# Altium schematic symbol library EsoCore.SCHLIB: 52 symbols
Pins are listed as number, name and electrical type; pins without a type are passive.

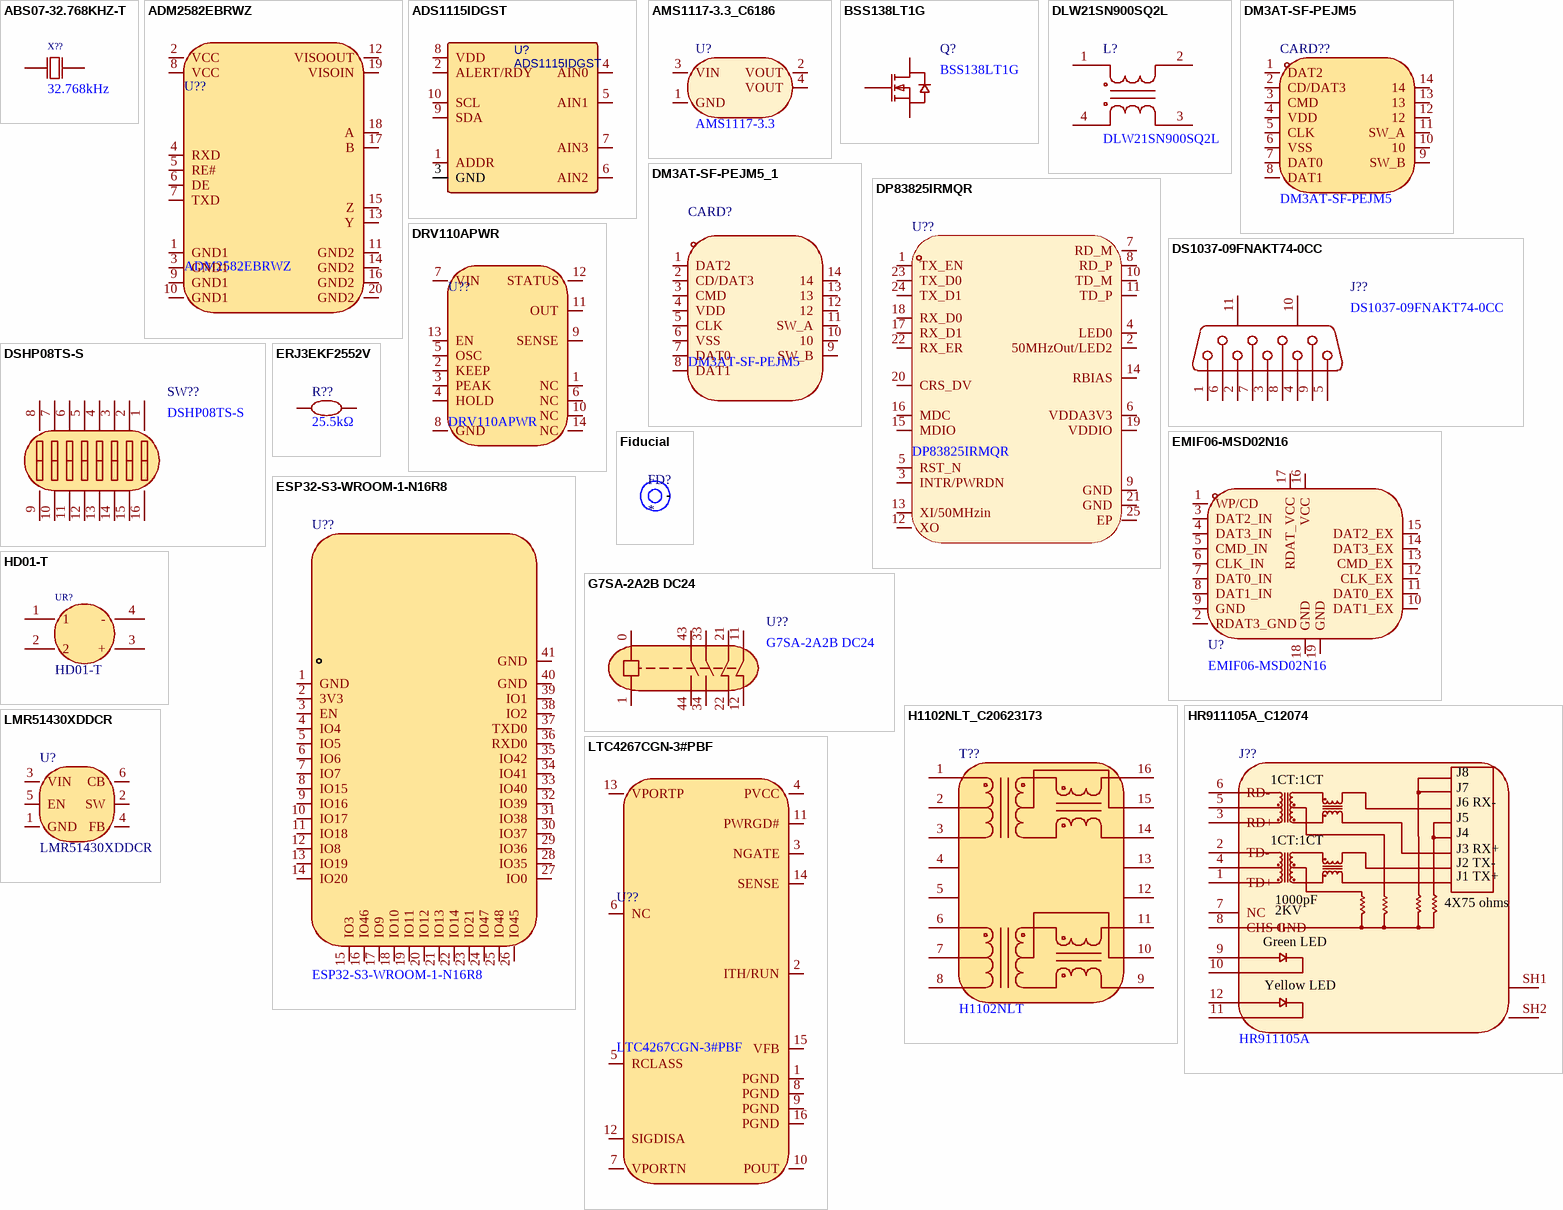
[diagram p0: symbols ABS07-32.768KHZ-T to LTC4267CGN-3#PBF]

## ABS07-32.768KHZ-T
designator X??, comment 32.768kHz
Manufacturer: ABRACON; Symbol: ABS07-32.768KHZ-T; Add into BOM: yes; Normal temperature Frequency Tolerance: ±20ppm; Load Capacitance: 12.5pF; Equivalent Series Resistance(ESR): 70kΩ; Device: ABS07-32.768KHZ-T; Supplier: LCSC; Supplier Part: C130253; Manufacturer Part: ABS07-32.768KHZ-T; Value: 32.768kHz; JLCPCB Part Class: Extended Part; LCSC Part Name: 32.768kHz ±20ppm 12.5pF; Supplier Footprint: SMD3215-2P; Datasheet: https://item.szlcsc.com/datasheet/ABS07-32.768KHZ-T/141540.html; Convert to PCB: yes; Type: Crystal Oscillator; Frequency Stability: -; Operating Temperature: -40℃~+85℃
footprint OSC-SMD_2P-L3.2-W1.5
3D model OSC-SMD_2P-L3.2-W1.5-H0.9
pins: 1 OSC1, 2 OSC2

## ADM2582EBRWZ
designator U??
Manufacturer: ADI(亚德诺); Add into BOM: yes; Communication Mode: Full-Duplex；Half-Duplex; Voltage - Supply: 3.3V；5V; Output Voltage: 3.3V; Isolation Voltage(Vrms): 2500; CMTI(kV/us): 25kV/us; Symbol: ADM2582EBRWZ; Device: ADM2582EBRWZ; LCSC Part Name: 信号和电源隔离的RS-485收发器，具有±15 kV静电放电保护; Supplier Part: C18532; Manufacturer Part: ADM2582EBRWZ; Supplier Footprint: SOIC-20-300mil; JLCPCB Part Class: Extended Part; Datasheet: https://item.szlcsc.com/datasheet/ADM2582EBRWZ/19232.html; Supplier: LCSC; Convert to PCB: yes; Operating Temperature: -40℃~+85℃
footprint SOIC-20_L13.0-W7.6-P1.27-LS10.3-BL
3D model SOIC-20_L12.8-W7.5-H2.7-LS10.3-P1.27
pins: 1 GND1, 2 VCC, 3 GND1, 4 RXD, 5 RE#, 6 DE, 7 TXD, 8 VCC, 9 GND1, 10 GND1, 11 GND2, 12 VISOOUT, 13 Y, 14 GND2, 15 Z, 16 GND2, 17 B, 18 A, 19 VISOIN, 20 GND2

## ADS1115IDGST
designator U?
Manufacturer: TI(德州仪器); Contributor: LCSC; Supplier: LCSC; Supplier Part: C468683; Manufacturer Part: ADS1115IDGST; JLCPCB Part Class: Extended Part; spicePre: U; spiceSymbolName: ADS1115IDGST
footprint VSSOP-10_L3.0-W3.0-P0.50-LS4.9-BL
pins: 1 ADDR, 2 ALERT/RDY, 3 GND, 4 AIN0, 5 AIN1, 6 AIN2, 7 AIN3, 8 VDD, 9 SDA, 10 SCL

## AMS1117-3.3_C6186
designator U?, comment AMS1117-3.3
Manufacturer: AMS; Device: AMS1117-3.3_C6186; Add into BOM: yes; Output Type: Fixed; Voltage - Supply: 16V; Output Voltage: 3.3V; Output Current: 1A; Power Supply Rejection Ratio (PSRR): 72dB@(120Hz); Voltage Dropout: 1.1V@(800mA); standby current: 5mA; Output Configuration: Positive; Number of Outputs: 1; Symbol: AMS1117-3.3; LCSC Part Name: 输出3.3V 1A; Supplier Part: C6186; Manufacturer Part: AMS1117-3.3; Supplier Footprint: SOT-223; JLCPCB Part Class: Basic Part; Datasheet: https://item.szlcsc.com/datasheet/AMS1117-3.3/6652.html; Supplier: LCSC; Convert to PCB: yes; Noise: -; Features: Over Current Protection；Over Temperature Protection; Operating Temperature: -40℃~+125℃
footprint SOT-223-3_L6.5-W3.4-P2.30-LS7.0-BR
3D model SOT-223-4P_L6.5-W3.5-H1.6-LS7.0-P2.30
pins: 1 GND, 2 VOUT, 3 VIN, 4 VOUT

## BSS138LT1G
designator Q?
Manufacturer: onsemi(安森美); Add into BOM: yes; Number: 1 N-Channel; Drain to Source Voltage: 50V; Current - Continuous Drain(Id): 200mA; RDS(on): 5.6Ω@2.75V; Pd - Power Dissipation: 225mW; Gate Threshold Voltage (Vgs(th)): 500mV; Input Capacitance(Ciss): 50pF@25V; Reverse Transfer Capacitance (Crss@Vds): 5pF@25V; Symbol: BSS138LT1G; Device: BSS138LT1G; LCSC Part Name: 1个N沟道 耐压:50V 电流:200mA; Supplier Part: C82045; Manufacturer Part: BSS138LT1G; Supplier Footprint: SOT-23; JLCPCB Part Class: Extended Part; Datasheet: https://item.szlcsc.com/datasheet/BSS138LT1G/83200.html; Supplier: LCSC; Convert to PCB: yes; Operating Temperature: -55℃~+150℃
footprint SOT-23-3_L2.9-W1.6-P1.90-LS2.8-BR
3D model SOT-23-3L_L2.9-W1.6-H1.1-LS2.8-P0.95
pins: 1 G, 2 S, 3 D

## DLW21SN900SQ2L
designator L?
Manufacturer: muRata(村田); Add into BOM: yes; Number of Lines: 2; Current Rating: 330mA; Impedance @ Frequency: 90Ω@100MHz; Symbol: DLW21SN900SQ2L; Device: DLW21SN900SQ2L; LCSC Part Name: 两路 贴片共模滤波器 阻抗90Ω@100MHz; Supplier Part: C97856; Manufacturer Part: DLW21SN900SQ2L; Supplier Footprint: SMD-4P,2x1.2mm; JLCPCB Part Class: Extended Part; Datasheet: https://item.szlcsc.com/datasheet/DLW21SN900SQ2L/99065.html; Supplier: LCSC; Convert to PCB: yes; Voltage Rating - DC: -; DC Resistance(DCR): -; Operating Temperature: -40℃~+85℃
footprint FILTER-SMD_4P-L2.0-W1.2-BL_DLW21H
3D model SMD-4_L2.0-W1.2-H1.3
pins: 1, 2, 3, 4

## DM3AT-SF-PEJM5
designator CARD??
Manufacturer: HRS(广濑); Add into BOM: yes; Card Connection Mode: Self-bouncing; Card Type: MicroSD card (TF card); Connector Type: Card Slot; Additional Card Detection Pins: None; Maximum Body Height: 1.68mm; Symbol: DM3AT-SF-PEJM5; Device: DM3AT-SF-PEJM5; LCSC Part Name: 自弹式 MicroSD卡(TF卡) 卡座; Supplier Part: C114218; Manufacturer Part: DM3AT-SF-PEJM5; Supplier Footprint: SMD; JLCPCB Part Class: Extended Part; Datasheet: https://atta.szlcsc.com/upload/public/pdf/source/20170707/1499425911622.pdf; Supplier: LCSC; Convert to PCB: yes; Supplementary Features: -; Operating Temperature Range: -25℃~+85℃
footprint SD-SMD_DM3AT-SF-PEJM5
3D model SD-SMD_DM3AT-SF-PEJM5
pins: 1 DAT2, 2 CD/DAT3, 3 CMD, 4 VDD, 5 CLK, 6 VSS, 7 DAT0, 8 DAT1, 9 SW_B, 10, 11 SW_A, 12, 13, 14

## DM3AT-SF-PEJM5_1
designator CARD?, comment DM3AT-SF-PEJM5
Manufacturer: HRS(广濑); Add into BOM: yes; Card Connection Mode: Self-bouncing; Card Type: MicroSD card (TF card); Connector Type: Card Slot; Additional Card Detection Pins: None; Maximum Body Height: 1.68mm; Symbol: DM3AT-SF-PEJM5; Device: DM3AT-SF-PEJM5; LCSC Part Name: 自弹式 MicroSD卡(TF卡) 卡座; Supplier Part: C114218; Manufacturer Part: DM3AT-SF-PEJM5; Supplier Footprint: SMD; JLCPCB Part Class: Extended Part; Datasheet: https://atta.szlcsc.com/upload/public/pdf/source/20170707/1499425911622.pdf; Supplier: LCSC; Convert to PCB: yes; Supplementary Features: -; Operating Temperature Range: -25℃~+85℃
footprint SD-SMD_DM3AT-SF-PEJM5
3D model SD-SMD_DM3AT-SF-PEJM5
pins: 1 DAT2, 2 CD/DAT3, 3 CMD, 4 VDD, 5 CLK, 6 VSS, 7 DAT0, 8 DAT1, 9 SW_B, 10, 11 SW_A, 12, 13, 14

## DP83825IRMQR
designator U??
Manufacturer: TI(德州仪器); Add into BOM: yes; MAC Interface: RMII; Voltage - Supply: 1.8V；3.3V; Symbol: DP83825IRMQR; Device: DP83825IRMQR; LCSC Part Name: DP83825I低功耗10/100Mbps以太网物理层收发器; Supplier Part: C783599; Manufacturer Part: DP83825IRMQR; Supplier Footprint: HVQFN-24-EP(3x3); JLCPCB Part Class: Extended Part; Datasheet: https://www.ti.com/cn/lit/gpn/dp83825i; Supplier: LCSC; Convert to PCB: yes; Applications Function: -; Number of Channels: -; Operating Temperature: -40℃~+85℃
footprint HVQFN-24_L3.0-W3.0-P0.40-TL-EP1.9
3D model HVQFN-24_L3.0-W3.0-P0.40-TL-EP1.9
pins: 1 TX_EN, 2 50MHzOut/LED2, 3 INTR/PWRDN, 4 LED0, 5 RST_N, 6 VDDA3V3, 7 RD_M, 8 RD_P, 9 GND, 10 TD_M, 11 TD_P, 12 XO, 13 XI/50MHzin, 14 RBIAS, 15 MDIO, 16 MDC, 17 RX_D1, 18 RX_D0, 19 VDDIO, 20 CRS_DV, 21 GND, 22 RX_ER, 23 TX_D0, 24 TX_D1, 25 EP

## DRV110APWR
designator U??
Manufacturer: TI(德州仪器); Add into BOM: yes; Symbol: DRV110APWR; Device: DRV110APWR; LCSC Part Name: 330mA 15V电机驱动芯片; Supplier Part: C2653796; Manufacturer Part: DRV110APWR; Supplier Footprint: TSSOP-14; JLCPCB Part Class: Extended Part; Datasheet: https://www.ti.com/cn/lit/gpn/drv110; Supplier: LCSC; Convert to PCB: yes
footprint TSSOP-14_L5.0-W4.4-P0.65-LS6.4-BL
3D model TSSOP-14_L5.0-W4.4-H1.0-LS6.4-P0.65
pins: 1 NC, 2 KEEP, 3 PEAK, 4 HOLD, 5 OSC, 6 NC, 7 VIN, 8 GND, 9 SENSE, 10 NC, 11 OUT, 12 STATUS, 13 EN, 14 NC

## DS1037-09FNAKT74-0CC
designator J??
Manufacturer: CONNFLY; Add into BOM: yes; Connector Type: Standard D-Sub; Gender: Mother; Current Rating-Signal (Max): 3A; Symbol: DS1037-09FNAKT74-0CC; Device: DS1037-09FNAKT74-0CC; LCSC Part Name: D-Sub 母 P数:9P 1200/盒 带六角螺丝; Supplier Part: C75749; Manufacturer Part: DS1037-09FNAKT74-0CC; Supplier Footprint: 弯插; JLCPCB Part Class: Extended Part; Datasheet: https://atta.szlcsc.com/upload/public/pdf/source/20241014/2E52C80238FADC5DB5725AE5600FD7FE.pdf; Supplier: LCSC; Convert to PCB: yes; Number of Pins: 9P; Mounting Style: Bend-in; Number of Rows: 2; Current Rating-Power (Max): -; Rated Voltage (Max): -; Colour: Black; Operating Temperature Range: -40℃~+105℃
footprint DSUB-TH_DS1037-09FNAKT74-0CC
3D model DSUB-TH_DMR-9S
pins: 1, 2, 3, 4, 5, 6, 7, 8, 9, 10 MH1, 11 MH2

## DSHP08TS-S
designator SW??
Manufacturer: XKB Connectivity(中国星坤); Add into BOM: yes; Circuit: SPST; Number of Positions: 8Bit; Pin Style: Gull Wing; Current Rating: 25mA; Voltage Rating: 24V; Operating Life: 3千次; Symbol: DSHP08TS-S; Device: DSHP08TS-S; Supplier: LCSC; Supplier Part: C319047; Manufacturer Part: DSHP08TS-S; JLCPCB Part Class: Extended Part; LCSC Part Name: 间距1.27mm 平拨,凹槽式 8位拨码开关; Supplier Footprint: SMD-16P,5.4x11.8mm; Datasheet: https://atta.szlcsc.com/upload/public/pdf/source/20211009/11BE85C99D2C85B0991AF4F9D6EB8BDE.pdf; Convert to PCB: yes; Type: 平拨,凹槽式; Lead Pitch: 1.27mm; Operating Temperature: -20℃~+70℃; Color: Black
footprint SW-SMD_DSHP08TS-S
3D model SW-SMD_DSHP08TS-S-L11.8-W5.4-H2.4-P1.27-LS8.5
pins: 1 A1, 2 A2, 3 A3, 4 A4, 5 A5, 6 A6, 7 A7, 8 A8, 9 B8, 10 B7, 11 B6, 12 B5, 13 B4, 14 B3, 15 B2, 16 B1

## EMIF06-MSD02N16
designator U?
Manufacturer: ST(意法半导体); Add into BOM: yes; Symbol: EMIF06-MSD02N 16; Device: EMIF06-MSD02N16; LCSC Part Name: EMIF06-MSD02N16; Supplier Part: C5267594; Manufacturer Part: EMIF06-MSD02N16; Supplier Footprint: QFN-16L; JLCPCB Part Class: Extended Part; Datasheet: https://atta.szlcsc.com/upload/public/pdf/source/20230906/AB780163D3E87C06B3836FCBE42EA0F7.pdf; Supplier: LCSC; Convert to PCB: yes
footprint QFN-16L_L3.5-W1.2-P0.40_EMIF06-MSD02N16
3D model QFN-16L_L3.5-W1.2-P0.40_EMIF06-MSD02N16
pins: 1 WP/CD, 2 RDAT3_GND, 3 DAT2_IN, 4 DAT3_IN, 5 CMD_IN, 6 CLK_IN, 7 DAT0_IN, 8 DAT1_IN, 9 GND, 10 DAT1_EX, 11 DAT0_EX, 12 CLK_EX, 13 CMD_EX, 14 DAT3_EX, 15 DAT2_EX, 16 VCC, 17 RDAT_VCC, 18 GND, 19 GND

## ERJ3EKF2552V
designator R??, comment 25.5kΩ
Manufacturer: PANASONIC(松下); Symbol: ERJ3EKF2552V; Add into BOM: yes; Tolerance: ±1%; Temperature Coefficient: ±100ppm/℃; Device: ERJ3EKF2552V; Supplier: LCSC; Supplier Part: C403107; Manufacturer Part: ERJ3EKF2552V; Value: 25.5kΩ; JLCPCB Part Class: Extended Part; LCSC Part Name: 25.5kΩ ±1% 100mW 厚膜电阻; Supplier Footprint: 0603; Datasheet: https://atta.szlcsc.com/upload/public/pdf/source/20190709/C403410_4AA7B6683950D876CE9308C181828FCD.pdf; Convert to PCB: yes; Type: Thick Film Resistors; Overload Voltage (Max): -; Operating Temperature Range: -55℃~+155℃
footprint R0603
3D model R0603
pins: 1, 2

## ESP32-S3-WROOM-1-N16R8
designator U??
Manufacturer: ESPRESSIF(乐鑫); Symbol: ESP32-S3-WROOM-1(N16R8); Add into BOM: yes; Device: ESP32-S3-WROOM-1-N16R8; LCSC Part Name: 通用型Wi-Fi+低功耗蓝牙MCU模组; Supplier Part: C2913202; Manufacturer Part: ESP32-S3-WROOM-1-N16R8; Supplier Footprint: SMD,18x25.5mm; JLCPCB Part Class: Extended Part; Datasheet: https://item.szlcsc.com/datasheet/ESP32-S3-WROOM-1-N16R8/3198300.html; Supplier: LCSC; Convert to PCB: yes
footprint WIRELM-SMD_ESP32-S3-WROOM-1
3D model WIRELM-SMD_ESP32-S3-WROOM-1
pins: 1 GND, 2 3V3, 3 EN, 4 IO4, 5 IO5, 6 IO6, 7 IO7, 8 IO15, 9 IO16, 10 IO17, 11 IO18, 12 IO8, 13 IO19, 14 IO20, 15 IO3, 16 IO46, 17 IO9, 18 IO10, 19 IO11, 20 IO12, 21 IO13, 22 IO14, 23 IO21, 24 IO47, 25 IO48, 26 IO45, 27 IO0, 28 IO35, 29 IO36, 30 IO37, 31 IO38, 32 IO39, 33 IO40, 34 IO41, 35 IO42, 36 RXD0, 37 TXD0, 38 IO2, 39 IO1, 40 GND, 41 GND

## Fiducial
designator FD?  (no BOM)
1mm pad with 2mm solder mask
footprint fidutial
pins: 0

## G7SA-2A2B DC24
designator U??
Manufacturer: OMRON(欧姆龙); Add into BOM: yes; Symbol: G7SA-2A2B DC24; Device: G7SA-2A2B DC24; LCSC Part Name: G7SA-2A2B DC24; Supplier Part: C397126; Manufacturer Part: G7SA-2A2B DC24; Supplier Footprint: DIP,13x40mm; JLCPCB Part Class: Extended Part; Datasheet: https://item.szlcsc.com/datasheet/G7SA-2A2B%2520DC24/378713.html; Supplier: LCSC; Convert to PCB: yes; Coil Voltage: -; Contact Form: -; Number of Pins: -; Contact Rating: -; Switching Voltage(Max): -; Contact Material: -; Coil Resistance: -; Switching Current(Max): -; Operate Time: -; Release Time: -; Coil Type: -; Contact Resistance: -; Operating Temperature: -
footprint RELAY-TH_G7SA-2A2B
pins: 0, 1, 11, 12, 21, 22, 33, 34, 43, 44

## H1102NLT_C20623173
designator T??, comment H1102NLT
Manufacturer: DEXU(德旭电子); Symbol: H1102NLT_C20623173; Add into BOM: yes; port: 单口; rate: 10/100M; Device: H1102NLT_C20623173; LCSC Part Name: H1102NLT; Supplier Part: C20623173; Manufacturer Part: H1102NLT; Supplier Footprint: SMD-16P,12.7x9.5mm; JLCPCB Part Class: Extended Part; Datasheet: https://atta.szlcsc.com/upload/public/pdf/source/20240221/C17B427D958C9B2A67A52A591C4EE00A.pdf; Supplier: LCSC; Convert to PCB: yes; Turns Ratio: -; function: -; Inductor: -; HI-POT: -; operating temperature: 0℃~+70℃
footprint XFMR-SMD_H1102NLT
3D model XFMR-SMD_L12.7-W7.1-H6.4-LS9.5-P1.27
pins: 1, 2, 3, 4, 5, 6, 7, 8, 9, 10, 11, 12, 13, 14, 15, 16

## HD01-T
designator UR?
Manufacturer: DIODES(美台); Add into BOM: yes; Voltage - Forward(Vf@If): 1V@400mA; Voltage - DC Reverse(Vr): 100V; Current - Rectified: 800mA; Reverse Leakage Current (Ir): 5uA@100V; Non-Repetitive Peak Forward Surge Current: 30A; Operating Junction Temperature Range: -55℃~+150℃; Symbol: HD01-T; Device: HD01-T; Supplier: LCSC; Manufacturer Part: HD01-T; Supplier Part: C52151; JLCPCB Part Class: Extended Part; LCSC Part Name: 耐压:100V 电流:0.8A; Supplier Footprint: MBS; Datasheet: https://item.szlcsc.com/datasheet/HD01-T/53165.html; Convert to PCB: yes
footprint MBS_L4.7-W4.0-P2.50-LS7.0-TL
3D model MBS_L4.7-W4.0-H2.5-LS7.0
pins: 1, 2, 3 +, 4 -

## HR911105A_C12074
designator J??, comment HR911105A
Manufacturer: HANRUN(汉仁); Symbol: HR911105A_C12074; Add into BOM: yes; Connector Type: RJ45 Jack; Number of Ports: 1; LED: With LED; PoE: Non-PoE; Supplementary Features: Filtered; Device: HR911105A_C12074; LCSC Part Name: 带LED; Supplier Part: C12074; Manufacturer Part: HR911105A; Supplier Footprint: 插件; JLCPCB Part Class: Extended Part; Datasheet: https://item.szlcsc.com/datasheet/HR911105A/12651.html; Supplier: LCSC; Convert to PCB: yes; Mounting Type: -; Shielding: -; Ratings: -; Contact Material: -; Contact Plating: -; Operating Temperature: -
footprint RJ45-TH_HR911105A
3D model RJ45-TH_HR911105A
pins: 1 TD+, 2 TD-, 3 RD+, 4, 5, 6 RD-, 7 NC, 8 CHS GND, 9, 10, 11, 12, SH1, SH2
text: J8; 1CT:1CT; J7; J6 RX-; J5; J4; J3 RX+; J2 TX-; J1 TX+; 1000pF; 4X75 ohms; 2KV; Green LED; Yellow LED

## LMR51430XDDCR
designator U?
Manufacturer: TI(德州仪器); Add into BOM: yes; Function: Buck; Voltage - Supply: 4.5V~36V; Output Voltage: 600mV~34.2V; Output Current: 3A; Frequency - Switching: 500kHz; Number of Outputs: 1; Switch tube (built-in/external): Built-In; Output Type: Adjustable; Symbol: LMR51430XDDCR; Device: LMR51430XDDCR; LCSC Part Name: LMR51430XDDCR; Supplier Part: C5185863; Manufacturer Part: LMR51430XDDCR; Supplier Footprint: SOT-23-6; JLCPCB Part Class: Extended Part; Datasheet: https://item.szlcsc.com/datasheet/LMR51430XDDCR/5856347.html; Supplier: LCSC; Convert to PCB: yes; Operating Temperature: -40℃~+150℃@(TJ); Synchronous Rectifier: Yes; Topology: Buck; Quiescent Current: -
footprint SOT-23-6_L2.9-W1.6-P0.95-LS2.8-BL
3D model SOT-23-6_L2.9-W1.6-H1.5-LS2.8-P0.95
pins: 1 GND, 2 SW, 3 VIN, 4 FB, 5 EN, 6 CB

## LTC4267CGN-3#PBF
designator U??
Manufacturer: ADI(亚德诺); Add into BOM: yes; Supply Voltage: 57V; Maximum Power: 12.95W; number of channels: 1; Symbol: LTC4267CGN-3#PBF; Device: LTC4267CGN-3#PBF; LCSC Part Name: LTC4267CGN-3#PBF; Supplier Part: C687885; Manufacturer Part: LTC4267CGN-3#PBF; Supplier Footprint: SSOP-16-150mil; JLCPCB Part Class: Extended Part; Datasheet: https://atta.szlcsc.com/upload/public/pdf/source/20200917/C687879_7E0D40D8D4792BF56EAC4A3F32693668.pdf; Supplier: LCSC; Convert to PCB: yes; Type: Power receiving device (PD); Operating Temperature: 0℃~+70℃
footprint SSOP-16_L4.9-W3.9-P0.64-LS6.0-BL
3D model SSOP-16_L4.9-W3.9-H1.75-LS6.0_P0.64
pins: 1 PGND, 2 ITH/RUN, 3 NGATE, 4 PVCC, 5 RCLASS, 6 NC, 7 VPORTN, 8 PGND, 9 PGND, 10 POUT, 11 PWRGD#, 12 SIGDISA, 13 VPORTP, 14 SENSE, 15 VFB, 16 PGND

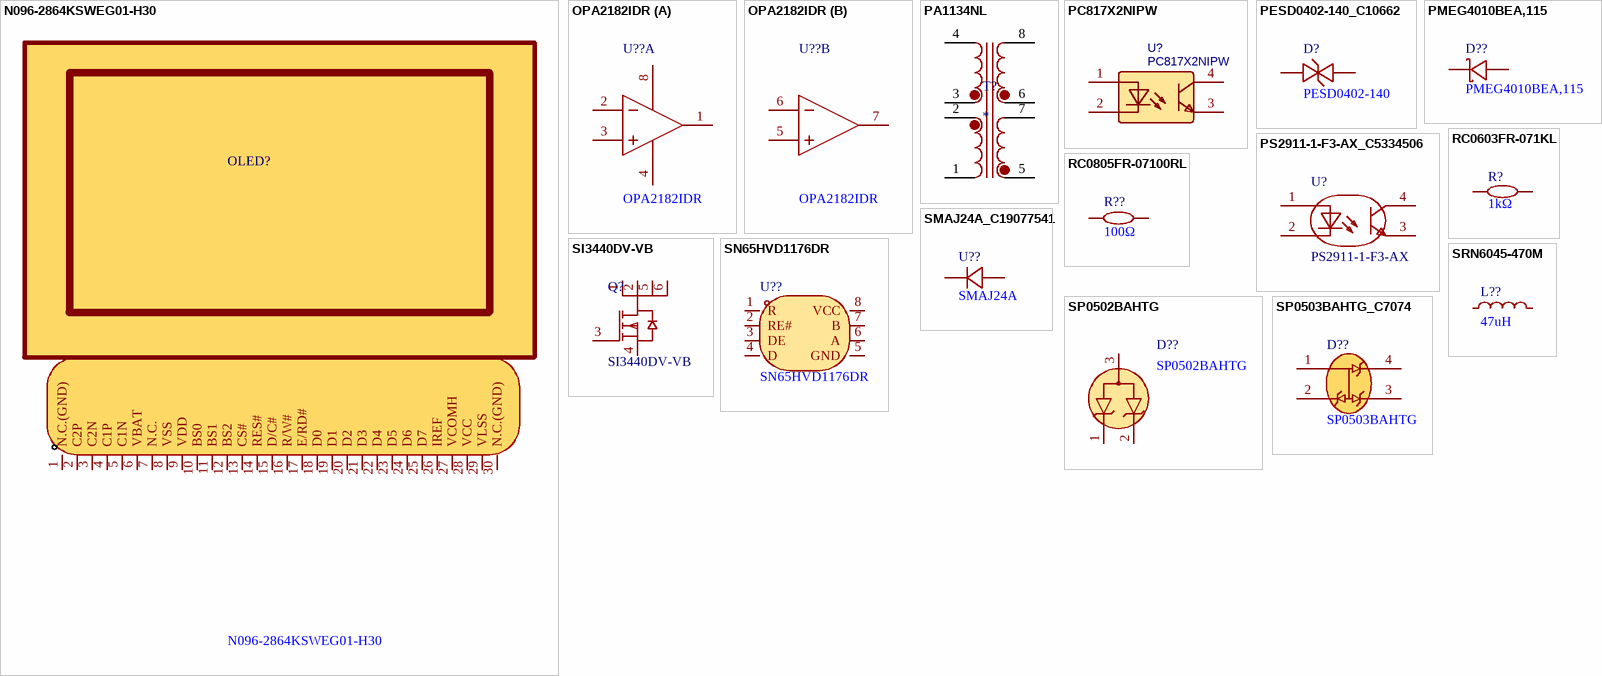
[diagram p1: symbols N096-2864KSWEG01-H30 to SRN6045-470M]

## N096-2864KSWEG01-H30
designator OLED?
Manufacturer: Wisevision(新智景); Add into BOM: yes; Controller Type: SSD1306; Symbol: N096-2864KSWEG01-H30; Device: N096-2864KSWEG01-H30; LCSC Part Name: 0.96寸 白色 128x64像素分辨率 单色 30PIN; Supplier Part: C2890596; Manufacturer Part: N096-2864KSWEG01-H30; Supplier Footprint: -; JLCPCB Part Class: Extended Part; Supplier: LCSC; Convert to PCB: yes; Size: 0.96
footprint OLED_0.96-30P-P0.70-12864
3D model OLED_L26.7-W15.5-H1.4-0.96-30P-P0.70-12864
pins: 1 N.C.(GND), 2 C2P, 3 C2N, 4 C1P, 5 C1N, 6 VBAT, 7 N.C., 8 VSS, 9 VDD, 10 BS0, 11 BS1, 12 BS2, 13 CS#, 14 RES#, 15 D/C#, 16 R/W#, 17 E/RD#, 18 D0, 19 D1, 20 D2, 21 D3, 22 D4, 23 D5, 24 D6, 25 D7, 26 IREF, 27 VCOMH, 28 VCC, 29 VLSS, 30 N.C.(GND)

## OPA2182IDR
designator U??
Manufacturer: TI(德州仪器); Add into BOM: yes; Number of Channels: 2; Gain Bandwidth Product: 5MHz; Ib - Input Bias Current: 50pA; Vos - Input Offset Voltage: 4uV; Common Mode Rejection Ratio(CMRR): 168dB; Slew Rate: 10V/us; Output Current: 65mA; Rail to Rail: Rail-to-Rail Output; Input Offset Voltage Drift(Vos TC): 3nV/℃; Quiescent Current(Iq): 850uA; Single Supply: 4.5V~36V; Dual Supply: -18V~-2.25V；2.25V~18V; Maximum Power Supply Range (Vdd-Vss): 36V; Noise density(eN): 5.7nV/√Hz@1kHz; Input Offset Current(Ios): 700pA; Relevance: []; Symbol: OPA2182IDR; Device: OPA2182IDR; Supplier: LCSC; Supplier Part: C2873420; Manufacturer Part: OPA2182IDR; JLCPCB Part Class: Extended Part; LCSC Part Name: 36V、5MHz、低噪声、零漂移、多路复用器友好型精密运算放大器; Supplier Footprint: SOIC-8; Datasheet: https://www.ti.com/cn/lit/gpn/opa2182; Convert to PCB: yes; Operating Temperature: -40℃~+125℃
footprint SOIC-8_L4.9-W3.9-P1.27-LS6.0-BL
3D model SOIC-8_L4.9-W3.9-H1.7-LS6.0-P1.27
part A pins: 1 OUT A, 2 IN A-, 3 IN A+, 4 V-, 8 V+
part B pins: 5 IN B+, 6 IN B-, 7 OUT B

## PA1134NL
designator T?
253ÂµH Isolation and Data Interface (Encapsulated) Pulse Transformer 1:0.125:0.208 Surface Mount; MP: PA1134NL; SnapEDA_Link: https://www.snapeda.com/parts/PA1134NL/Pulse/view-part/?ref=snap; Package: None; Value: *; MF: Pulse; Check_prices: https://www.snapeda.com/parts/PA1134NL/Pulse/view-part/?ref=eda
footprint XFMR_PA1134NL
pins: 1, 2, 3, 4, 5, 6, 7, 8

## PC817X2NIPW
designator U?
Manufacturer: SHARP(夏普); Contributor: LCSC; Supplier: LCSC; Supplier Part: C2840443; Manufacturer Part: PC817X2NIPW; JLCPCB Part Class: Extended Part; spicePre: U; spiceSymbolName: PC817X2NIPW
footprint SOP-4_L6.5-W4.6-P2.54-LS10.0
pins: 1 A, 2 C, 3 E, 4 C

## PESD0402-140_C10662
designator D?, comment PESD0402-140
Manufacturer: Littelfuse(美国力特); Device: PESD0402-140_C10662; Add into BOM: yes; Polarity: Bidirectional; Reverse Stand-Off Voltage (Vrwm): 14V; Clamping Voltage: 40V; Reverse Leakage Current (Ir): 10uA; level of protection: IEC 61000-4-2; Type: ESD; Junction Capacitance: 0.25pF; Symbol: PESD0402-140; LCSC Part Name: 双向TVS 14V截止; Supplier Part: C10662; Manufacturer Part: PESD0402-140; Supplier Footprint: 0402; JLCPCB Part Class: Extended Part; Datasheet: https://item.szlcsc.com/datasheet/PESD0402-140/11206.html; Supplier: LCSC; Convert to PCB: yes; Peak Pulse Current (Ipp): -; Peak Pulse Power Dissipation (Ppp): -; Voltage - Breakdown: -; Operating Temperature: -55℃~+125℃
footprint D0402-BI
3D model D0402_L1.0-W0.5-H0.5
pins: 1, 2

## PMEG4010BEA,115
designator D??
Manufacturer: Nexperia(安世); Add into BOM: yes; Voltage - Forward(Vf@If): 640mV@1A; Voltage - DC Reverse(Vr): 40V; Current - Rectified: 1A; Reverse Leakage Current (Ir): 100uA@40V; Non-Repetitive Peak Forward Surge Current: 10A; Symbol: PMEG4010BEA; Device: PMEG4010BEA,115; LCSC Part Name: 电压:40V 电流:1A; Supplier Part: C36975; Manufacturer Part: PMEG4010BEA,115; Supplier Footprint: SOD-323; JLCPCB Part Class: Extended Part; Datasheet: https://item.szlcsc.com/datasheet/PMEG4010BEA%252C115/37953.html; Supplier: LCSC; Convert to PCB: yes
footprint SOD-323_L1.8-W1.3-LS2.5-RD
3D model SOD-323_L1.8-W1.3-LS2.5-RD
pins: 1 K, 2 A

## PS2911-1-F3-AX_C5334506
designator U?, comment PS2911-1-F3-AX
Manufacturer: RENESAS(瑞萨)/IDT; Symbol: PS2911-1-F3-AX_C5334506; Add into BOM: yes; Voltage - Forward(Vf): 1.1V; Output Current: 40mA; Isolation Voltage(Vrms): 2.5kV; Number of Outputs: 1; Rise time: 5us; Fall time: 10us; Device: PS2911-1-F3-AX_C5334506; LCSC Part Name: 四引脚超小型扁平引脚封装光电耦合器; Supplier Part: C5334506; Manufacturer Part: PS2911-1-F3-AX; Supplier Footprint: SOP-4; JLCPCB Part Class: Extended Part; Datasheet: https://item.szlcsc.com/datasheet/PS2911-1-F3-AX/6098733.html; Supplier: LCSC; Convert to PCB: yes; Operating Temperature: -55℃~+100℃
footprint OPTO-SMD_PS2911-1-F3-AX
3D model OPTO-SMD_PS2911-1-F3-AX
pins: 1 Anode, 2 Cathode, 3 Emitter, 4 Collector

## RC0603FR-071KL
designator R?, comment 1kΩ
Manufacturer: YAGEO(国巨); Symbol: RC0603FR-071KL; Add into BOM: yes; Tolerance: ±1%; Power(Watts): 100mW; Voltage-Supply(Max): 75V; Temperature Coefficient: ±100ppm/℃; Device: RC0603FR-071KL; LCSC Part Name: 厚膜电阻 1kΩ ±1% 100mW; Supplier Part: C22548; Manufacturer Part: RC0603FR-071KL; Supplier Footprint: 0603; JLCPCB Part Class: Extended Part; Datasheet: https://atta.szlcsc.com/upload/public/pdf/source/20180316/70C0E2BDAE7FCC62C531A5A58D202EE1.pdf; Supplier: LCSC; Convert to PCB: yes; Type: Thick Film Resistors; Value: 1kΩ; Operating Temperature: -55℃~+155℃
footprint R0603
3D model R0603
pins: 1, 2

## RC0805FR-07100RL
designator R??, comment 100Ω
Manufacturer: YAGEO(国巨); Symbol: RC0805FR-07100RL; Add into BOM: yes; Tolerance: ±1%; Power(Watts): 125mW; Voltage-Supply(Max): 150V; Temperature Coefficient: ±100ppm/℃; Device: RC0805FR-07100RL; LCSC Part Name: 厚膜电阻 100Ω ±1% 125mW; Supplier Part: C105577; Manufacturer Part: RC0805FR-07100RL; Supplier Footprint: 0805; JLCPCB Part Class: Extended Part; Datasheet: https://item.szlcsc.com/datasheet/RC0805FR-07100RL/106792.html; Supplier: LCSC; Convert to PCB: yes; Type: Thick Film Resistor; Value: 100Ω; Operating Temperature: -55℃~+155℃
footprint R0805
3D model R0805_L2.0-W1.3-H0.6
pins: 1, 2

## SI3440DV-VB
designator Q?
Manufacturer: VBsemi(微碧半导体); Add into BOM: yes; Type: 1 N-channel; Current - Continuous Drain(Id): 3.2A; Pd - Power Dissipation: 1.3W; Gate Threshold Voltage (Vgs(th)@Id): 2.5V; Gate Charge(Qg): 8.2nC@4.5V; Input Capacitance(Ciss@Vds): 424pF@50V; Reverse Transfer Capacitance (Crss@Vds): 42pF@50V; Symbol: SI3440DV; Device: SI3440DV-VB; LCSC Part Name: 1个N沟道 耐压:100V 电流:3.2A; Supplier Part: C710066; Manufacturer Part: SI3440DV-VB; Supplier Footprint: SOT-23-6; JLCPCB Part Class: Extended Part; Datasheet: https://atta.szlcsc.com/upload/public/pdf/source/20221101/E06AFB8796F00FBE54442A2AA46A0081.pdf; Supplier: LCSC; Convert to PCB: yes; RDS(on): -
footprint SOT-23-6_L2.9-W1.6-P0.95-LS2.8-BR
3D model SOT-23-6_L2.9-W1.6-H1.5-LS2.8-P0.95
pins: 1 D, 2 D, 3 G, 4 S, 5 D, 6 D

## SMAJ24A_C19077541
designator U??, comment SMAJ24A
Manufacturer: 宏嘉诚; Symbol: SMAJ24A_C19077541; Add into BOM: yes; Polarity: Unidirectional; Reverse Stand-Off Voltage (Vrwm): 24V; Clamping Voltage: 38.9V; Peak Pulse Current (Ipp): 10.3A@10/1000us; Peak Pulse Power Dissipation (Ppp): 400W@10/1000us; Voltage - Breakdown: 29.5V; Reverse Leakage Current (Ir): 1uA; level of protection: IEC 61000-4-2; Device: SMAJ24A_C19077541; LCSC Part Name: 400W 表面贴装瞬态电压抑制器; Supplier Part: C19077541; Manufacturer Part: SMAJ24A; Supplier Footprint: DO-214AC(SMA); JLCPCB Part Class: Extended Part; Datasheet: https://item.szlcsc.com/datasheet/SMAJ24A/20275626.html; Supplier: LCSC; Convert to PCB: yes; Operating Temperature: -; Type: TVS
footprint SMA_L4.3-W2.6-LS5.0-RD
3D model SMA_L4.3-W2.6-LS5.0-RD
pins: 1 C, 2 A

## SN65HVD1176DR
designator U??
Manufacturer: TI(德州仪器); Add into BOM: yes; Number of Drivers: 1; Voltage - Supply: 4.75V~5.25V; Data Rate: 40Mbps; Symbol: SN65HVD1176DR; Device: SN65HVD1176DR; LCSC Part Name: SN65HVD1176, SN75HVD1176 PROFIBUS RS-485 收发器; Supplier Part: C123783; Manufacturer Part: SN65HVD1176DR; Supplier Footprint: SOIC-8; JLCPCB Part Class: Extended Part; Datasheet: https://www.ti.com/cn/lit/gpn/sn65hvd1176; Supplier: LCSC; Convert to PCB: yes; Type: transceiver; Number of Receivers: 1; Operating Temperature: -40℃~+85℃
footprint SOIC-8_L5.0-W4.0-P1.27-LS6.0-BL
3D model SOIC-8_L4.9-W3.9-H1.7-LS6.0-P1.27
pins: 1 R, 2 RE#, 3 DE, 4 D, 5 GND, 6 A, 7 B, 8 VCC

## SP0502BAHTG
designator D??
Manufacturer: Littelfuse(美国力特); Add into BOM: yes; Polarity: Unidirectional; Reverse Stand-Off Voltage (Vrwm): 5.5V; Clamping Voltage: 12V; Reverse Leakage Current (Ir): 100nA; Number of Channels: 2; level of protection: IEC 61000-4-2; Type: TVS; Junction Capacitance: 30pF; Symbol: SP0502BAHTG; Device: SP0502BAHTG; LCSC Part Name: SP0502BAHTG; Supplier Part: C207261; Manufacturer Part: SP0502BAHTG; Supplier Footprint: SOT-23; JLCPCB Part Class: Extended Part; Datasheet: https://item.szlcsc.com/datasheet/SP0502BAHTG/208380.html; Supplier: LCSC; Convert to PCB: yes; Peak Pulse Current (Ipp): -; Peak Pulse Power Dissipation (Ppp): -; Voltage - Breakdown: -; Operating Temperature: -40℃~+125℃
footprint SOT-23-3_L2.9-W1.3-P1.90-LS2.4-BR
3D model SOT-23-3P_L2.9-W1.3-H1.0-LS2.4-P0.95
pins: 1 K1, 2 K2, 3 A

## SP0503BAHTG_C7074
designator D??, comment SP0503BAHTG
Manufacturer: Littelfuse(美国力特); Device: SP0503BAHTG_C7074; Add into BOM: yes; Reverse Stand-Off Voltage (Vrwm): 5.5V@Max; Maximum Clamping Voltage: 8.5V; Type: TVS; Symbol: SP0503BAHTG; LCSC Part Name: SP0503BAHTG; Supplier Part: C7074; Manufacturer Part: SP0503BAHTG; Supplier Footprint: SOT-143; JLCPCB Part Class: Extended Part; Datasheet: https://atta.szlcsc.com/upload/public/pdf/source/20160723/1469258976518.pdf; Supplier: LCSC; Convert to PCB: yes
footprint SOT-143_L2.9-W1.3-P1.92-LS2.3-BR
3D model SOT-143-4P_L3.0-W1.3-H1.0-LS2.3-P1.70
pins: 1, 2, 3, 4

## SRN6045-470M
designator L??, comment 47uH
Manufacturer: BOURNS; Symbol: SRN6045-470M; Add into BOM: yes; Tolerance: ±20%; Current Rating: 1.1A; Current - Saturation(Isat): 1.3A; DC Resistance(DCR): 257mΩ; Device: SRN6045-470M; LCSC Part Name: 47uH ±20% 1.3A; Supplier Part: C2041480; Manufacturer Part: SRN6045-470M; Supplier Footprint: SMD,6x6mm; JLCPCB Part Class: Extended Part; Datasheet: https://item.szlcsc.com/datasheet/SRN6045-470M/2133043.html; Supplier: LCSC; Convert to PCB: yes; Value: 47uH; Type: -; Ratings: -
footprint IND-SMD_L6.0-W6.0_SRN6045
pins: 1, 2

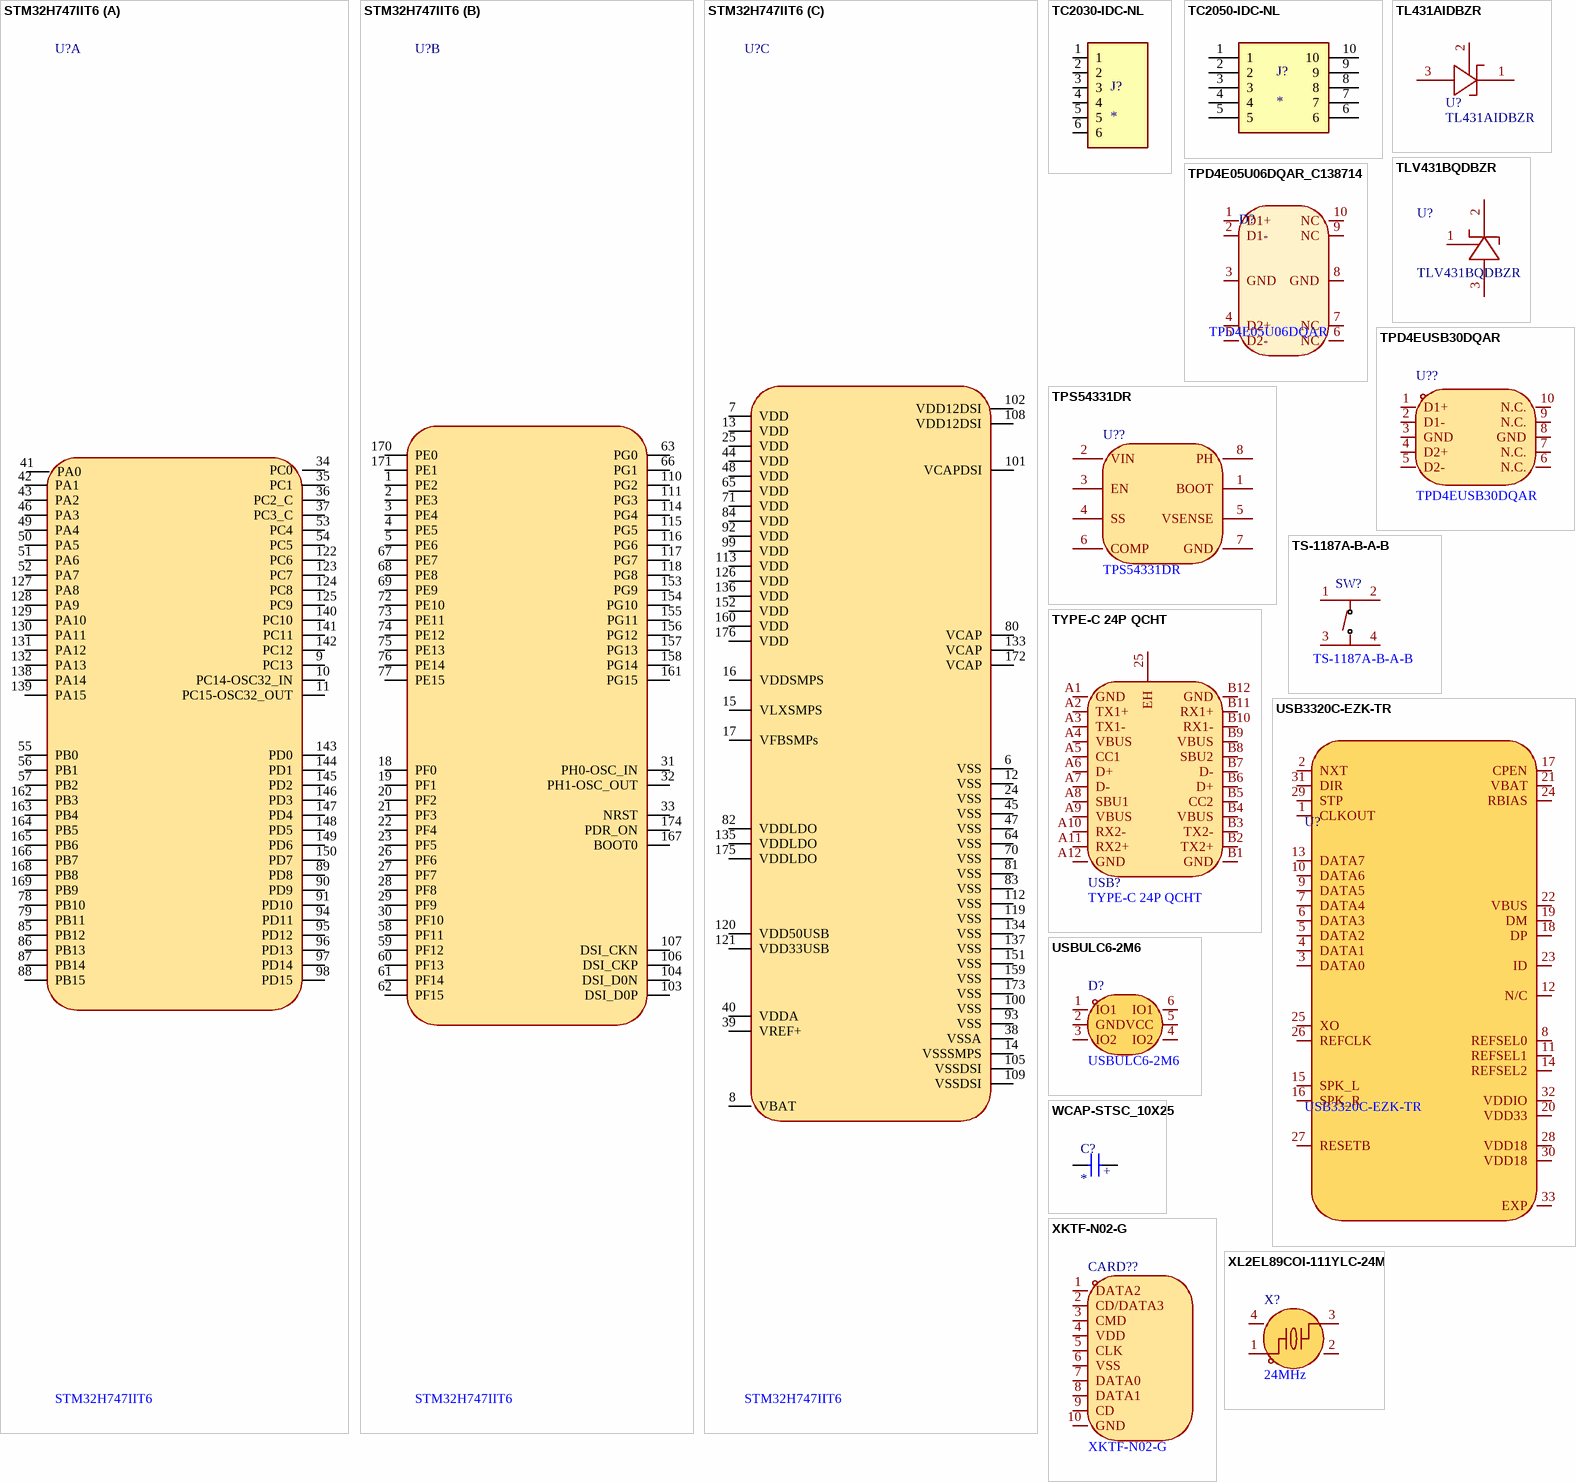
[diagram p2: symbols STM32H747IIT6 to XL2EL89COI-111YLC-24M]

## STM32H747IIT6
designator U?
Manufacturer: ST(意法半导体); Add into BOM: yes; CPU Core: ARM other series; CPU Maximum Speed: 240MHz；480MHz; Program Storage Size: 2MB; Program Memory Type: FLASH; Number of I/O: 168; ADC (Bit): 16bit; DAC (Bit): 12bit; Low Voltage Detection Threshold: 1.62V~3.6V; Symbol: STM32H747IIT6; Device: STM32H747IIT6; LCSC Part Name: 带DSP和DP-FPU的高性能ARM Cortex-M7 + Cortex-M4 MCU，具有2 MB Flash、1 MB RAM、480 MHz CPU、ART加速器、一级缓存、外部存储器接口、大量外设、SMPS和MIPI-DSI; Supplier Part: C730199; Manufacturer Part: STM32H747IIT6; Supplier Footprint: LQFP-176(24x24); JLCPCB Part Class: Extended Part; Datasheet: https://atta.szlcsc.com/upload/public/pdf/source/20200902/C730194_AB31659919554024C167BACD3EB6D7B7.pdf; Supplier: LCSC; Convert to PCB: yes; Application Area: -
footprint LQFP-176_L24.0-W24.0-P0.50-LS26.0-BL
3D model LQFP-176_L24.0-W24.0-H1.4-LS26.0-P0.50
part A pins: 9 PC13, 10 PC14-OSC32_IN, 11 PC15-OSC32_OUT, 34 PC0, 35 PC1, 36 PC2_C, 37 PC3_C, 41 PA0, 42 PA1, 43 PA2, 46 PA3, 49 PA4, 50 PA5, 51 PA6, 52 PA7, 53 PC4, 54 PC5, 55 PB0, 56 PB1, 57 PB2, 78 PB10, 79 PB11, 85 PB12, 86 PB13, 87 PB14, 88 PB15, 89 PD8, 90 PD9, 91 PD10, 94 PD11, 95 PD12, 96 PD13, 97 PD14, 98 PD15, 122 PC6, 123 PC7, 124 PC8, 125 PC9, 127 PA8, 128 PA9, 129 PA10, 130 PA11, 131 PA12, 132 PA13, 138 PA14, 139 PA15, 140 PC10, 141 PC11, 142 PC12, 143 PD0, 144 PD1, 145 PD2, 146 PD3, 147 PD4, 148 PD5, 149 PD6, 150 PD7, 162 PB3, 163 PB4, 164 PB5, 165 PB6, 166 PB7, 168 PB8, 169 PB9
part B pins: 1 PE2, 2 PE3, 3 PE4, 4 PE5, 5 PE6, 18 PF0, 19 PF1, 20 PF2, 21 PF3, 22 PF4, 23 PF5, 26 PF6, 27 PF7, 28 PF8, 29 PF9, 30 PF10, 31 PH0-OSC_IN, 32 PH1-OSC_OUT, 33 NRST, 58 PF11, 59 PF12, 60 PF13, 61 PF14, 62 PF15, 63 PG0, 66 PG1, 67 PE7, 68 PE8, 69 PE9, 72 PE10, 73 PE11, 74 PE12, 75 PE13, 76 PE14, 77 PE15, 103 DSI_D0P, 104 DSI_D0N, 106 DSI_CKP, 107 DSI_CKN, 110 PG2, 111 PG3, 114 PG4, 115 PG5, 116 PG6, 117 PG7, 118 PG8, 153 PG9, 154 PG10, 155 PG11, 156 PG12, 157 PG13, 158 PG14, 161 PG15, 167 BOOT0, 170 PE0, 171 PE1, 174 PDR_ON
part C pins: 6 VSS, 7 VDD, 8 VBAT, 12 VSS, 13 VDD, 14 VSSSMPS, 15 VLXSMPS, 16 VDDSMPS, 17 VFBSMPs, 24 VSS, 25 VDD, 38 VSSA, 39 VREF+, 40 VDDA, 44 VDD, 45 VSS, 47 VSS, 48 VDD, 64 VSS, 65 VDD, 70 VSS, 71 VDD, 80 VCAP, 81 VSS, 82 VDDLDO, 83 VSS, 84 VDD, 92 VDD, 93 VSS, 99 VDD, 100 VSS, 101 VCAPDSI, 102 VDD12DSI, 105 VSSDSI, 108 VDD12DSI, 109 VSSDSI, 112 VSS, 113 VDD, 119 VSS, 120 VDD50USB, 121 VDD33USB, 126 VDD, 133 VCAP, 134 VSS, 135 VDDLDO, 136 VDD, 137 VSS, 151 VSS, 152 VDD, 159 VSS, 160 VDD, 172 VCAP, 173 VSS, 175 VDDLDO, 176 VDD

## TC2030-IDC-NL
designator J?
PLUG-OF-NAILS 6-PIN W/O LEGS 8; MF: Tag-Connect; MP: TC2030-IDC-NL; SnapEDA_Link: https://www.snapeda.com/parts/TC2030-IDC-NL/Tag-Connect/view-part/?ref=snap; Package: None; Value: *; Check_prices: https://www.snapeda.com/parts/TC2030-IDC-NL/Tag-Connect/view-part/?ref=eda
footprint TAG_TC2030-IDC-NL
pins: 1, 2, 3, 4, 5, 6

## TC2050-IDC-NL
designator J?
MSP-FET430 Flash Emulation Tool Plug-Of-Nailsâ„¢ Adapter Cable; MF: Tag-Connect LLC; MP: TC2050-IDC-NL; SnapEDA_Link: https://www.snapeda.com/parts/TC2050-IDC-NL/Tag-Connect/view-part/?ref=snap; Package: None; Value: *; Check_prices: https://www.snapeda.com/parts/TC2050-IDC-NL/Tag-Connect/view-part/?ref=eda
footprint TAG-CONNECT_TC2050-IDC-NL
pins: 1, 2, 3, 4, 5, 6, 7, 8, 9, 10

## TL431AIDBZR
designator U?
Manufacturer: TI(德州仪器); Add into BOM: yes; Output Type: Adjustable; Output Voltage: 2.495V~36V; Output Current: 100mA; Tolerance: ±1%; Reference Type: parallel connection; Minimum Cathode Current for Regulation: 700uA; Symbol: TL431AIDBZR; Device: TL431AIDBZR; LCSC Part Name: TL431AIDBZR; Supplier Part: C23892; Manufacturer Part: TL431AIDBZR; Supplier Footprint: SOT-23; JLCPCB Part Class: Extended Part; Datasheet: https://www.ti.com/cn/lit/gpn/tl431; Supplier: LCSC; Convert to PCB: yes; Input Voltage: -; Temperature Coefficient: -; Supply Current: -; Noise - 1/10Hz to 10Hz: -; Noise - 10Hz to 10kHz: -; Operating Temperature: -40℃~+85℃@(Ta)
footprint SOT-23-3_L2.9-W1.6-P1.90-LS2.8-BR
3D model SOT-23-3L_L2.9-W1.6-H1.1-LS2.8-P0.95
pins: 1 CATHODE, 2 REF, 3 ANODE

## TLV431BQDBZR
designator U?
Manufacturer: TI(德州仪器); Add into BOM: yes; Output Type: Adjustable; Output Voltage: 1.24V~6V; Output Current: 15mA; Tolerance: ±0.5%; Reference Type: Parallel; Minimum Cathode Current for Regulation: 80uA; Symbol: TLV431BQDBZR; Device: TLV431BQDBZR; LCSC Part Name: TLV431x 低电压可调精密分流稳压器; Supplier Part: C398374; Manufacturer Part: TLV431BQDBZR; Supplier Footprint: SOT-23-3; JLCPCB Part Class: Extended Part; Datasheet: https://www.ti.com/cn/lit/gpn/tlv431b; Supplier: LCSC; Convert to PCB: yes; Voltage - Supply: -; Temperature Coefficient: -; Quiescent Current: -; Operating Temperature: -40℃~+125℃
footprint SOT-23-3_L2.9-W1.3-P0.95-LS2.4-BR
3D model SOT-23-3P_L2.9-W1.3-H1.0-LS2.4-P0.95
pins: 1 REF, 2 CATHODE, 3 ANODE

## TPD4E05U06DQAR_C138714
designator D?, comment TPD4E05U06DQAR
Manufacturer: TI(德州仪器); Symbol: TPD4E05U06DQAR_C138714; Add into BOM: yes; Polarity: Unidirectional; Reverse Stand-Off Voltage (Vrwm): 5.5V; Clamping Voltage: 14V; Peak Pulse Current (Ipp): 2.5A@8/20us; Peak Pulse Power Dissipation (Ppp): 40W@8/20us; Voltage - Breakdown: 6.5V; Reverse Leakage Current (Ir): 10nA; Number of Channels: 4; level of protection: IEC 61000-4-4；IEC 61000-4-5；IEC 61000-4-2; Type: TVS; Junction Capacitance: 0.5pF; Device: TPD4E05U06DQAR_C138714; LCSC Part Name: 单向ESD; Supplier Part: C138714; Manufacturer Part: TPD4E05U06DQAR; Supplier Footprint: USON-10(1x2.5); JLCPCB Part Class: Extended Part; Datasheet: https://www.ti.com/cn/lit/gpn/tpd4e05u06; Supplier: LCSC; Convert to PCB: yes; Operating Temperature: -40℃~+125℃
footprint USON-10_L2.5-W1.0-P0.50-BL
3D model USON-10_L2.5-W1.0-H0.6-P0.50
pins: 1 D1+, 2 D1-, 3 GND, 4 D2+, 5 D2-, 6 NC, 7 NC, 8 GND, 9 NC, 10 NC

## TPD4EUSB30DQAR
designator U??
Manufacturer: TI(德州仪器); Add into BOM: yes; polarity: Unidirectional; Reverse Stand-Off Voltage (Vrwm): 5.5V; Maximum Clamping Voltage: 8V; Peak Pulse Current (Ipp): 1A; Peak Pulse Power Dissipation (Ppp): 45W; Breakdown Voltage: 7V; Symbol: TPD4EUSB30DQAR; Device: TPD4EUSB30DQAR; LCSC Part Name: 单向ESD; Supplier Part: C90627; Manufacturer Part: TPD4EUSB30DQAR; Supplier Footprint: USON-10(1x2.5); JLCPCB Part Class: Extended Part; Datasheet: https://www.ti.com/cn/lit/gpn/tpd4eusb30; Supplier: LCSC; Convert to PCB: yes; Operating Temperature: -40℃~+85℃@(Ta); Type: ESD
footprint USON-10_L2.5-W1.0-P0.50-BL
3D model USON-10_L2.5-W1.0-H0.6-P0.50
pins: 1 D1+, 2 D1-, 3 GND, 4 D2+, 5 D2-, 6 N.C., 7 N.C., 8 GND, 9 N.C., 10 N.C.

## TPS54331DR
designator U??
Manufacturer: TI(德州仪器); Add into BOM: yes; Function: Step-down type; Output Type: Adjustable; Input Voltage: 3.5V~28V; Output Current: 3A; Switching Frequency: 570kHz; Synchronous Rectification: No; Number of Outputs: 1; Topology: Step-down; Quiescent Current (Iq): 1mA; Switch tube (built-in/external): Built-in; Symbol: TPS54331DR; Device: TPS54331DR; LCSC Part Name: 3A, 28V 输入非同步降压转换器; Supplier Part: C9865; Manufacturer Part: TPS54331DR; Supplier Footprint: SOIC-8; JLCPCB Part Class: Extended Part; Datasheet: https://www.ti.com/cn/lit/gpn/tps54331; Supplier: LCSC; Convert to PCB: yes; Output Voltage: -; Operating Temperature: -40℃~+150℃@(TJ)
footprint SOIC-8_L5.0-W4.0-P1.27-LS6.0-BL
3D model SOIC-8_L4.9-W3.9-H1.7-LS6.0-P1.27
pins: 1 BOOT, 2 VIN, 3 EN, 4 SS, 5 VSENSE, 6 COMP, 7 GND, 8 PH

## TS-1187A-B-A-B
designator SW?
Manufacturer: XKB Connection(中国星坤); Add into BOM: yes; Circuit: SPST; Actuator Style: Round Button; Operating Force: 1.6N; Switch Height: 1.5mm; with Bracket: Without Bracket; Contact Current: 50mA; Voltage Rating: 12V; Actuator/Cap Color: Gold; With Lamp: No; Life: 100,000 Cycles; Symbol: TS-1187A-B-A-B; Device: TS-1187A-B-A-B; LCSC Part Name: 5.1*5.1*1.5mm 立贴 轻触开关; Supplier Part: C318884; Manufacturer Part: TS-1187A-B-A-B; Supplier Footprint: SMD; JLCPCB Part Class: Basic Part; Datasheet: https://item.szlcsc.com/datasheet/TS-1187A-B-A-B/299976.html; Supplier: LCSC; Convert to PCB: yes; Mounting Type: Surface Mount,Vertical; Length: 5.1mm; Width: 5.1mm; Operating Temperature: -30℃~+85℃
footprint SW-SMD_4P-L5.1-W5.1-P3.70-LS6.5-TL_H1.5
3D model SW-SMD_4P-L5.1-W5.1-P3.70-LS6.5-TL_H1.5
pins: 1 A, 2 B, 3 C, 4 D

## TYPE-C 24P QCHT
designator USB?
Manufacturer: SHOU HAN(首韩); Add into BOM: yes; Protocol Standard: USB 3.1; Gender: Female; Number of Ports: 1; Current Rating-Power: 3A; Voltage Rating: 30V; Connect-Disconnect Life: 10,000 Cycles; Detection color: Black; Symbol: TYPE-C 24P QCHT; Device: TYPE-C 24P QCHT; LCSC Part Name: Type-C 母 卧贴; Supplier Part: C456013; Manufacturer Part: TYPE-C 24P QCHT; Supplier Footprint: SMD; JLCPCB Part Class: Extended Part; Datasheet: https://item.szlcsc.com/datasheet/TYPE-C%252024P%2520QCHT/458820.html; Supplier: LCSC; Convert to PCB: yes; Connector Type: Type-C; Mounting Type: Surface Mount, Right Angle; Number of Contacts: 24P; Operating Temperature: -40℃~+85℃
footprint TYPE-C-SMD_TYPE-C-24P-QCHT
3D model TYPE-C-SMD_TYPE-C-24P-QCHT
pins: 25 EH, A1 GND, A2 TX1+, A3 TX1-, A4 VBUS, A5 CC1, A6 D+, A7 D-, A8 SBU1, A9 VBUS, A10 RX2-, A11 RX2+, A12 GND, B1 GND, B2 TX2+, B3 TX2-, B4 VBUS, B5 CC2, B6 D+, B7 D-, B8 SBU2, B9 VBUS, B10 RX1-, B11 RX1+, B12 GND

## USB3320C-EZK-TR
designator U?
Manufacturer: MICROCHIP(美国微芯); Add into BOM: yes; Applications Function: Transceiver; Supply Voltage: 1.8V~3.3V; Symbol: USB3320C-EZK-TR; Device: USB3320C-EZK-TR; LCSC Part Name: 高度集成的全功能高速USB 2.0 ULPI收发器; Supplier Part: C132156; Manufacturer Part: USB3320C-EZK-TR; Supplier Footprint: QFN-32-EP(5x5); JLCPCB Part Class: Extended Part; Datasheet: https://atta.szlcsc.com/upload/public/pdf/source/20171014/C132156_15079753252181037999.pdf; Supplier: LCSC; Convert to PCB: yes; Operating Temperature: -40℃~+85℃
footprint QFN-32_L5.0-W5.0-P0.50-BL-EP3.4
3D model QFN-32_L5.0-W5.0-H0.9-P0.50
pins: 1 CLKOUT, 2 NXT, 3 DATA0, 4 DATA1, 5 DATA2, 6 DATA3, 7 DATA4, 8 REFSEL0, 9 DATA5, 10 DATA6, 11 REFSEL1, 12 N/C, 13 DATA7, 14 REFSEL2, 15 SPK_L, 16 SPK_R, 17 CPEN, 18 DP, 19 DM, 20 VDD33, 21 VBAT, 22 VBUS, 23 ID, 24 RBIAS, 25 XO, 26 REFCLK, 27 RESETB, 28 VDD18, 29 STP, 30 VDD18, 31 DIR, 32 VDDIO, 33 EXP

## USBULC6-2M6
designator D?
Manufacturer: ST(意法半导体); Add into BOM: yes; Clamping Voltage: 17V; Voltage - Breakdown: 6V; Reverse Leakage Current (Ir): 500nA; Number of Channels: 2; level of protection: IEC 61000-4-2; Type: ESD; Junction Capacitance: 0.65pF; Symbol: USBULC6-2M6; Device: USBULC6-2M6; LCSC Part Name: USBULC6-2M6; Supplier Part: C672213; Manufacturer Part: USBULC6-2M6; Supplier Footprint: UQFN-6; JLCPCB Part Class: Extended Part; Datasheet: https://item.szlcsc.com/datasheet/USBULC6-2M6/703258.html; Supplier: LCSC; Convert to PCB: yes
footprint SON-6_L1.4-W1.0-P0.50-TL_USBULC6-2M6
3D model SON-6_L1.4-W1.0-P0.50-TL_USBULC6-2M6
pins: 1 IO1, 2 GND, 3 IO2, 4 IO2, 5 VCC, 6 IO1

## WCAP-STSC_10X25
designator C?
10 F (EDLC) Supercapacitor 2.7 V Radial, Can 35mOhm 1000 Hrs @ 65Â°C; MF: WÃ¼rth Elektronik; MP: 850617021004; SnapEDA_Link: https://www.snapeda.com/parts/850617021004/W%25C3%25BCrth+Elektronik+Midcom/view-part/?ref=snap; Package: Radial WÃ¼rth Elektronik; Value: *; Check_prices: https://www.snapeda.com/parts/850617021004/W%25C3%25BCrth+Elektronik+Midcom/view-part/?ref=eda
footprint WCAP-STSC_D10L25
pins: 1 POS, 2 NEG
text: +

## XKTF-N02-G
designator CARD??
Manufacturer: XKB Connection(中国星坤); Add into BOM: yes; Card Connection Mode: Self-bouncing; Card Type: MicroSD card (TF card); Connector Type: Card Slot; Maximum Body Height: 2mm; Symbol: XKTF-N02-G; Device: XKTF-N02-G; LCSC Part Name: 自弹式 MicroSD卡(TF卡) 卡座; Supplier Part: C1121875; Manufacturer Part: XKTF-N02-G; Supplier Footprint: SMD; Datasheet: https://atta.szlcsc.com/upload/public/pdf/source/20211011/2B3EBCA9FB2B8A4E702046E8AA8C16C6.pdf; Supplier: LCSC; Convert to PCB: yes; Additional Card Detection Pins: -; Supplementary Features: -; Operating Temperature Range: -25℃~+90℃
footprint TF-SMD_XKTF-N02-G
3D model TF-SMD_XKTF-N02-G
pins: 1 DATA2, 2 CD/DATA3, 3 CMD, 4 VDD, 5 CLK, 6 VSS, 7 DATA0, 8 DATA1, 9 CD, 10 GND

## XL2EL89COI-111YLC-24M
designator X?, comment 24MHz
Manufacturer: YXC(扬兴晶振); Symbol: XL2EL89COI-111YLC-24M; Add into BOM: yes; Normal temperature Frequency Tolerance: ±10ppm; Load Capacitance: 12pF; Frequency Stability: ±20ppm; Device: XL2EL89COI-111YLC-24M; LCSC Part Name: YSX321SL 24MHZ 4P 3225 12PF ±10PPM -40~85℃ (±20PPM); Supplier Part: C5444545; Manufacturer Part: XL2EL89COI-111YLC-24M; Supplier Footprint: SMD3225-4P; JLCPCB Part Class: Extended Part; Datasheet: https://item.szlcsc.com/datasheet/XL2EL89COI-111YLC-24M/6336541.html; Supplier: LCSC; Convert to PCB: yes; Type: Crystal Oscillator; Value: 24MHz; Operating Temperature: -40℃~+85℃
footprint CRYSTAL-SMD_4P-L3.2-W2.5-BL
3D model CRYSTAL-SMD_4P-L3.2-W2.5-BL
pins: 1, 2 GND, 3, 4 GND